# Altium footprint library Y2.PcbLib: 9 footprints
Each footprint in its own frame and in the unit in brackets; x right, y up, seen from the top. Pads: shape width x height; smd on the part's side, far side on the other; paste and mask are expansions set on the pad; w line width, h text height; cw(c..) or ccw(c..) is an arc to the next point about the centre after c.
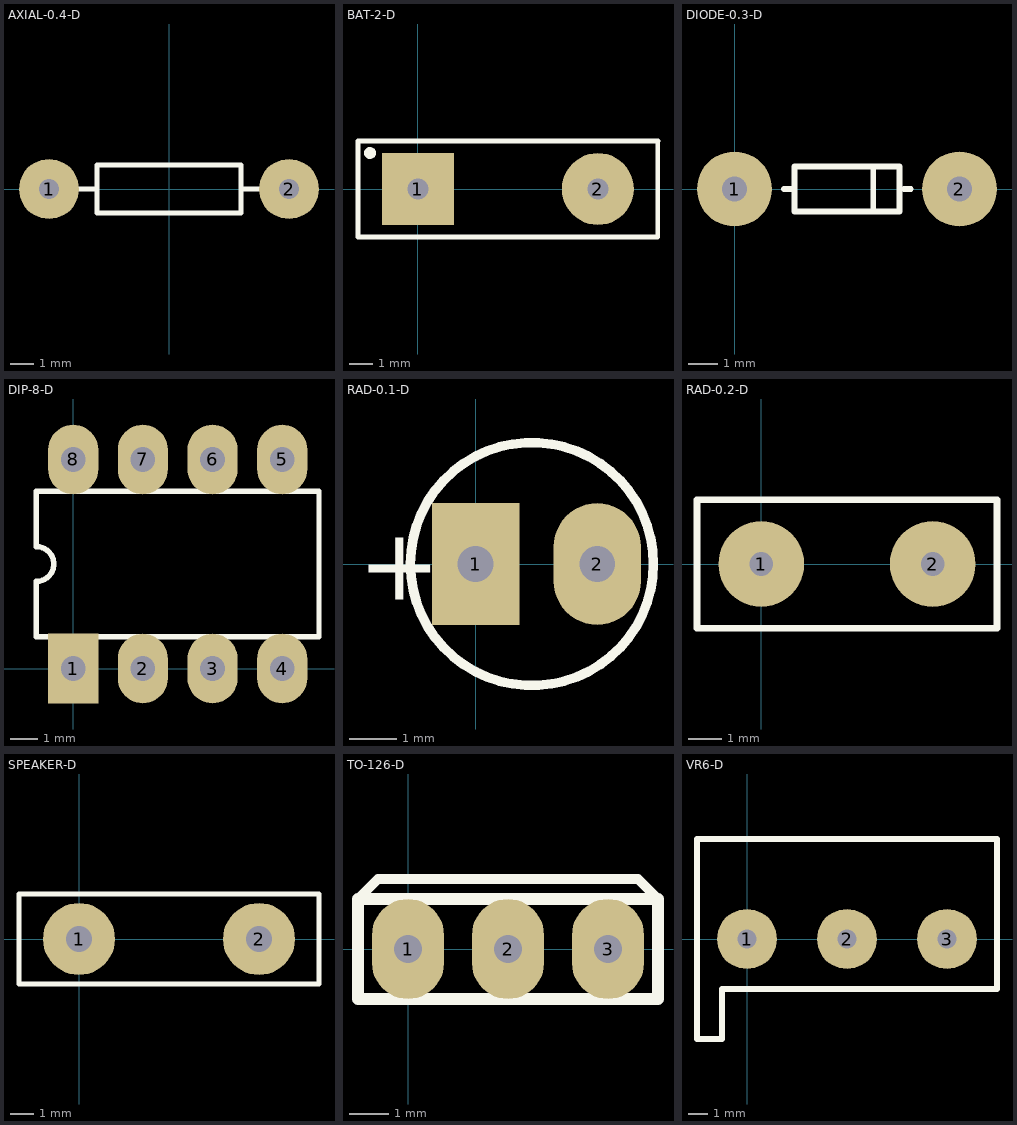
[diagram p0: the footprints below, top view; thin cyan lines are the x and y axes]

## AXIAL-0.4-D [mm] "Resistor; 2 Leads; 100*100mil"
height 2.032
pads (2):
  round 2.54 hole 0.85: 1(-5.08,0) 2(5.08,0)
Top Overlay:
  lines w0.2: -4.064,0 -3.048,0 ; 3.048,0 4.064,0 ; -3.048,-1.016 3.048,-1.016 3.048,1.016 -3.048,1.016 -3.048,-1.016

## BAT-2-D [mil] "power; 2 Leads; 120*120mil"
height 200
pads (2):
  rect 120x120 hole 35.43: 1(0,0)
  round 120 hole 35.43: 2(300,0)
Top Overlay:
  circle w9.84: c-79.92,60 r4.92
  lines w7.87: 400,80 400,-80 -100,-80 -100,80 400.24,80

## DIODE-0.3-D [mm] "Resistor; 2 Leads; 100*100mil"
height 1.524
pads (2):
  round 2.54 hole 0.85: 1(0,0) 2(7.62,0)
Top Overlay:
  lines w0.2: 1.676,0 1.905,0 ; 4.699,-0.762 4.699,0.762 ; 5.74,0 5.969,0 ; 2.032,-0.762 5.588,-0.762 5.588,0 5.588,0.762 2.032,0.762 2.032,-0.762

## DIP-8-D [mil] "DIP; 8 Leads; 100*72mil"
height 200
pads (8):
  rect 72x100 hole 35.43: 1(0,0)
  oval 72x100 hole 35.43: 2(100,0) 3(200,0) 4(300,0) 5(300,300) 6(200,300) 7(100,300) 8(0,300)
Top Overlay:
  lines w7.87: -52.76,45.67 -52.76,125 ccw(c-52.76,150) -52.76,175 -52.76,254.33 352.76,254.33 352.76,45.67 -52.76,45.67

## RAD-0.1-D [mil] "Capacitor, Electrolytic, Radial; 72*100mil"
height 200
pads (2):
  rect 72x100 hole 29.53: 1(0,0)
  oval 72x100 hole 29.53: 2(100,0)
Top Overlay:
  circle w7.87: c46.26,0 r100
  text "+" at -96.81,-29.53 h59.06

## RAD-0.2-D [mm] "Jumper Wire; 2 Leads; 100*100mil"
height 5.08
pads (2):
  round 2.54 hole 0.7: 1(0,0) 2(5.08,0)
Top Overlay:
  lines w0.2: -1.905,-1.905 6.985,-1.905 6.985,1.905 -1.905,1.905 -1.905,-1.905

## SPEAKER-D [mil] "Circuit Breaker; 2 Leads; 120*120mil"
height 200
pads (2):
  round 120 hole 43.31: 1(0,0) 2(300,0)
Top Overlay:
  lines w7.87: -100,-75 400,-75 400,75 -100,75 -100,-75

## TO-126-D [mil] "72*100mil"
height 200
pads (3):
  oval 72x100 hole 28: 1(0,0) 2(100,0) 3(200,0)
Top Overlay:
  lines w10: -50,50 -30,70 230,70 250,50
  lines w12: -50,-50 -50,50 250,50 250,-50 -50,-50

## VR6-D [mil] "120*120mil"
height 200
pads (3):
  round 120 hole 38: 1(0,0) 2(200,0) 3(400,0)
Top Overlay:
  lines w12: 275,200 500,200 500,-100 -50,-100 -50,-200 -100,-200 -100,-100 -100,0 -100,200 300,200